# Altium footprint library SSW10602GDRA.PcbLib: 1 footprints
Each footprint in its own frame and in the unit in brackets; x right, y up, seen from the top. Pads: shape width x height; smd on the part's side, far side on the other; paste and mask are expansions set on the pad; w line width, h text height; cw(c..) or ccw(c..) is an arc to the next point about the centre after c.
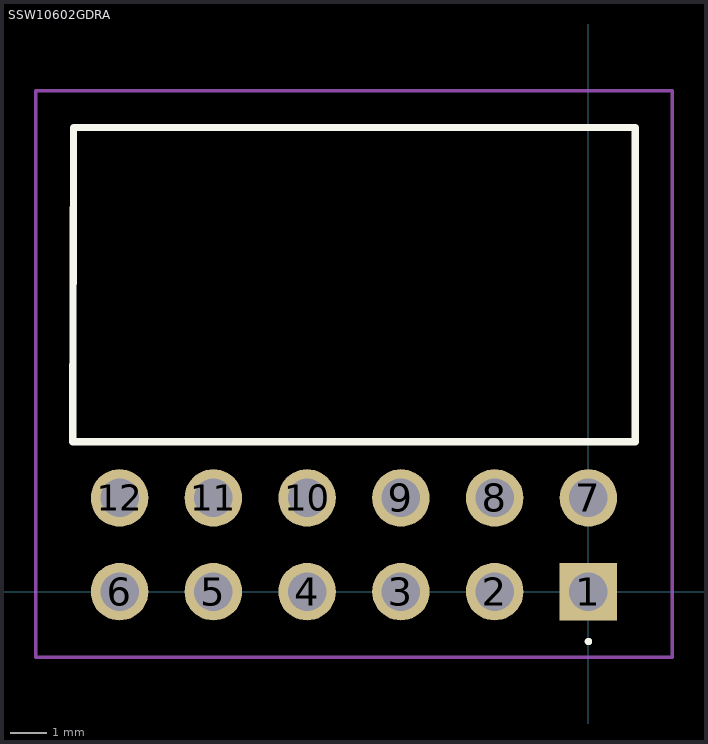
[diagram p0: the footprint, top view; thin cyan lines are the x and y axes]

## SSW10602GDRA [mm]
pads (12):
  rect 1.56x1.56 hole 1.04: 1(0,0)
  round 1.56 hole 1.04: 2(-2.54,0) 3(-5.08,0) 4(-7.62,0) 5(-10.16,0) 6(-12.7,0) 7(0,2.54) 8(-2.54,2.54) 9(-5.08,2.54) 10(-7.62,2.54) 11(-10.16,2.54) 12(-12.7,2.54)
Top Overlay:
  lines w0.1: 0,-1.4 0,-1.4 ; 0,-1.4 ccw(c0,-1.35) 0,-1.3 ; 0,-1.4 cw(c0,-1.35) 0,-1.3 ; 0,-1.3 0,-1.3
  lines w0.2: -13.97,4.064 -13.95,12.574 1.27,12.574 1.27,4.064 -13.95,4.064
Mechanical 15:
  lines w0.1: -13.97,4.064 1.27,4.064 1.27,12.574 -13.97,12.574 -13.97,4.064
Mechanical 20:
  lines w0.1: -14.97,-1.78 2.27,-1.78 2.27,13.574 -14.97,13.574 -14.97,-1.78